# Altium footprint library ECS-160-8-30B-CKM.PcbLib: 1 footprints
Each footprint in its own frame and in the unit in brackets; x right, y up, seen from the top. Pads: shape width x height; smd on the part's side, far side on the other; paste and mask are expansions set on the pad; w line width, h text height; cw(c..) or ccw(c..) is an arc to the next point about the centre after c.
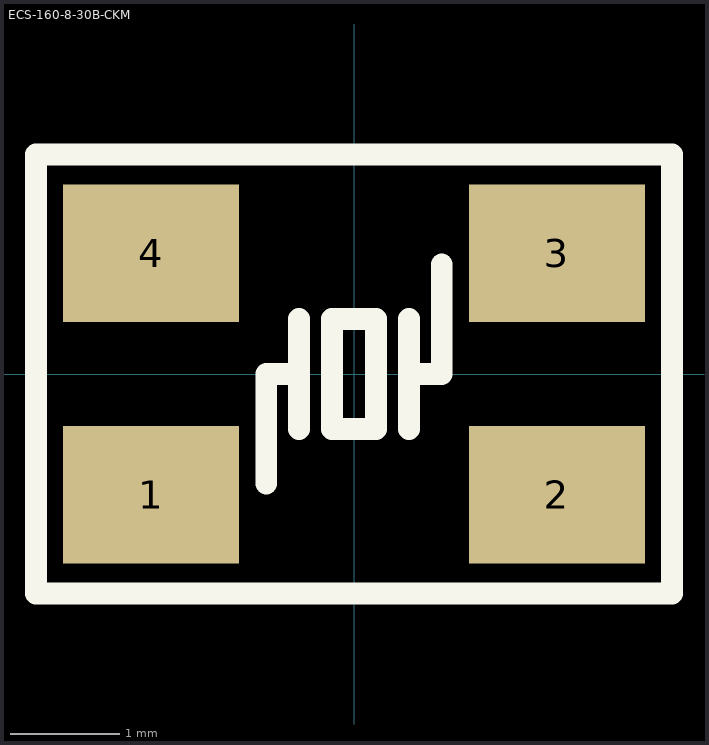
[diagram p0: the footprint, top view; thin cyan lines are the x and y axes]

## ECS-160-8-30B-CKM [mm] "ECS-160-8-30B-CKM"
height 0.85
pads (4):
  rect 1.6x1.25 smd paste+0 mask+0.05: 1(-1.85,-1.1) 2(1.85,-1.1) 3(1.85,1.1) 4(-1.85,1.1)
Top Overlay:
  lines w0.2: -0.8,-1 -0.8,0 -0.5,0 ; -0.5,-0.5 -0.5,0.5 ; 0.5,-0.5 0.5,0.5 ; 0.5,0 0.8,0 0.8,1 ; -2.9,-2 2.9,-2 2.9,2 -2.9,2 -2.9,-2 ; -0.2,-0.5 -0.2,0.5 0.2,0.5 0.2,-0.5 -0.2,-0.5
3D body: height 0.85, standoff 0.05, extent -2.5,-1.6 2.5,1.6